# EAGLE library part STM32L031E4Y6 (library circuit_tree)
IC
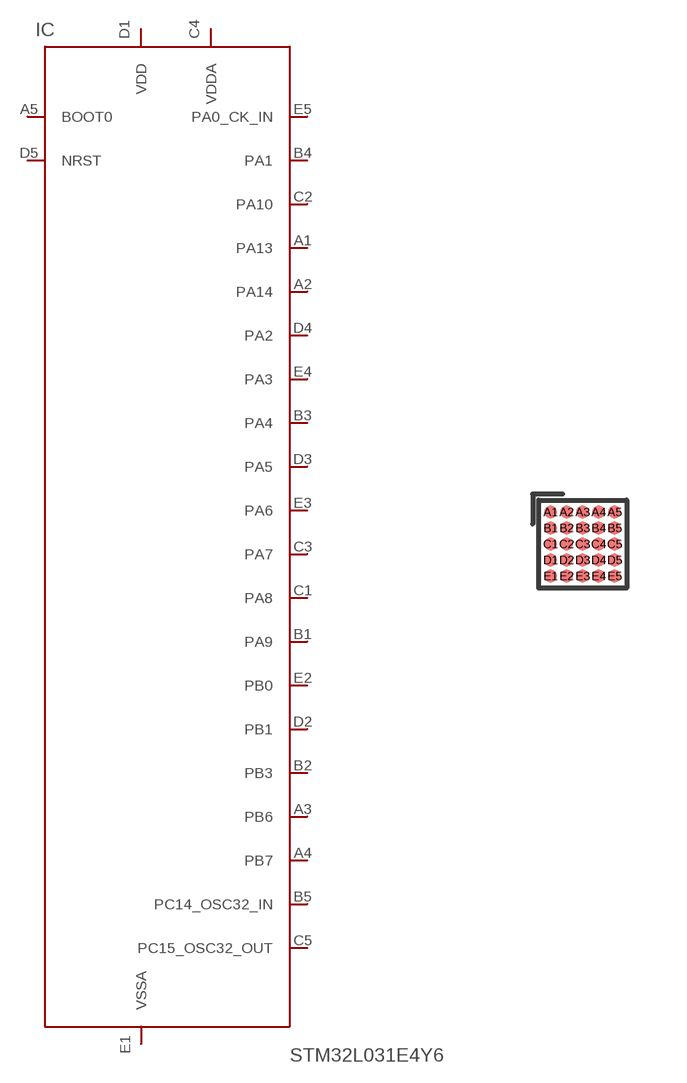
[diagram p2: symbol with the pads of WLCSP25; footprint WLCSP25]

Designator prefix IC

## STM32L031E4Y6  [WLCSP25]
A1  PA13  pas
A2  PA14  pas
A3  PB6  pas
A4  PB7  pas
A5  BOOT0  pas
B1  PA9  pas
B2  PB3  pas
B3  PA4  pas
B4  PA1  pas
B5  PC14_OSC32_IN  pas
C1  PA8  pas
C2  PA10  pas
C3  PA7  pas
C4  VDDA  pas
C5  PC15_OSC32_OUT  pas
D1  VDD  pas
D2  PB1  pas
D3  PA5  pas
D4  PA2  pas
D5  NRST  pas
E1  VSSA  pas
E2  PB0  pas
E3  PA6  pas
E4  PA3  pas
E5  PA0_CK_IN  pas

## Footprint WLCSP25 (pad centres in mm)
WLCSP25 Wafer level chip-size package; 25 bumps (5 x 5) JEDEC: -- IEC: -- JEITA: -- from nxp_packages.lbr
smd 0.32 x 0.32: A1 -0.8,0.8; A2 -0.4,0.8; A3 0,0.8; A4 0.4,0.8; A5 0.8,0.8; B1 -0.8,0.4; B2 -0.4,0.4; B3 0,0.4; B4 0.4,0.4; B5 0.8,0.4; C1 -0.8,0; C2 -0.4,0; C3 0,0; C4 0.4,0; C5 0.8,0; D1 -0.8,-0.4; D2 -0.4,-0.4; D3 0,-0.4; D4 0.4,-0.4; D5 0.8,-0.4; E1 -0.8,-0.8; E2 -0.4,-0.8; E3 0,-0.8; E4 0.4,-0.8; E5 0.8,-0.8